# Altium schematic symbol library Tactile Switches.SchLib: 2 symbols
Pins are listed as number, name and electrical type; pins without a type are passive.

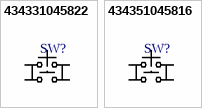
[diagram p0: symbols 434331045822 to 434351045816]

## 434331045822
designator SW?  (value not drawn)
SWITCH TACTILE SPST-NO 0.05A 12V; Supplier 1: Digi-Key; Supplier 2: Farnell; Supplier 3: Mouser; Supplier Part Number 1: 732-7055-1-ND; Supplier Part Number 2: 1867997; Supplier Part Number 3: 710-434331045822
footprint WURTH_434331045822
pins: 1, 2, 3, 4

## 434351045816
designator SW?  (value not drawn)
SWITCH TACTILE SPST-NO 0.05A 12V; Supplier 1: Digi-Key; Supplier 2: Farnell; Supplier 3: Mouser; Supplier Part Number 1: 732-7057-1-ND; Supplier Part Number 2: 1867996; Supplier Part Number 3: 710-434351045816
footprint WURTH_434351045816
pins: 1, 2, 3, 4